# Altium footprint library discret.PcbLib: 21 footprints (part 1 of 2)
Each footprint in its own frame and in the unit in brackets; x right, y up, seen from the top. Pads: shape width x height; smd on the part's side, far side on the other; paste and mask are expansions set on the pad; w line width, h text height; cw(c..) or ccw(c..) is an arc to the next point about the centre after c.
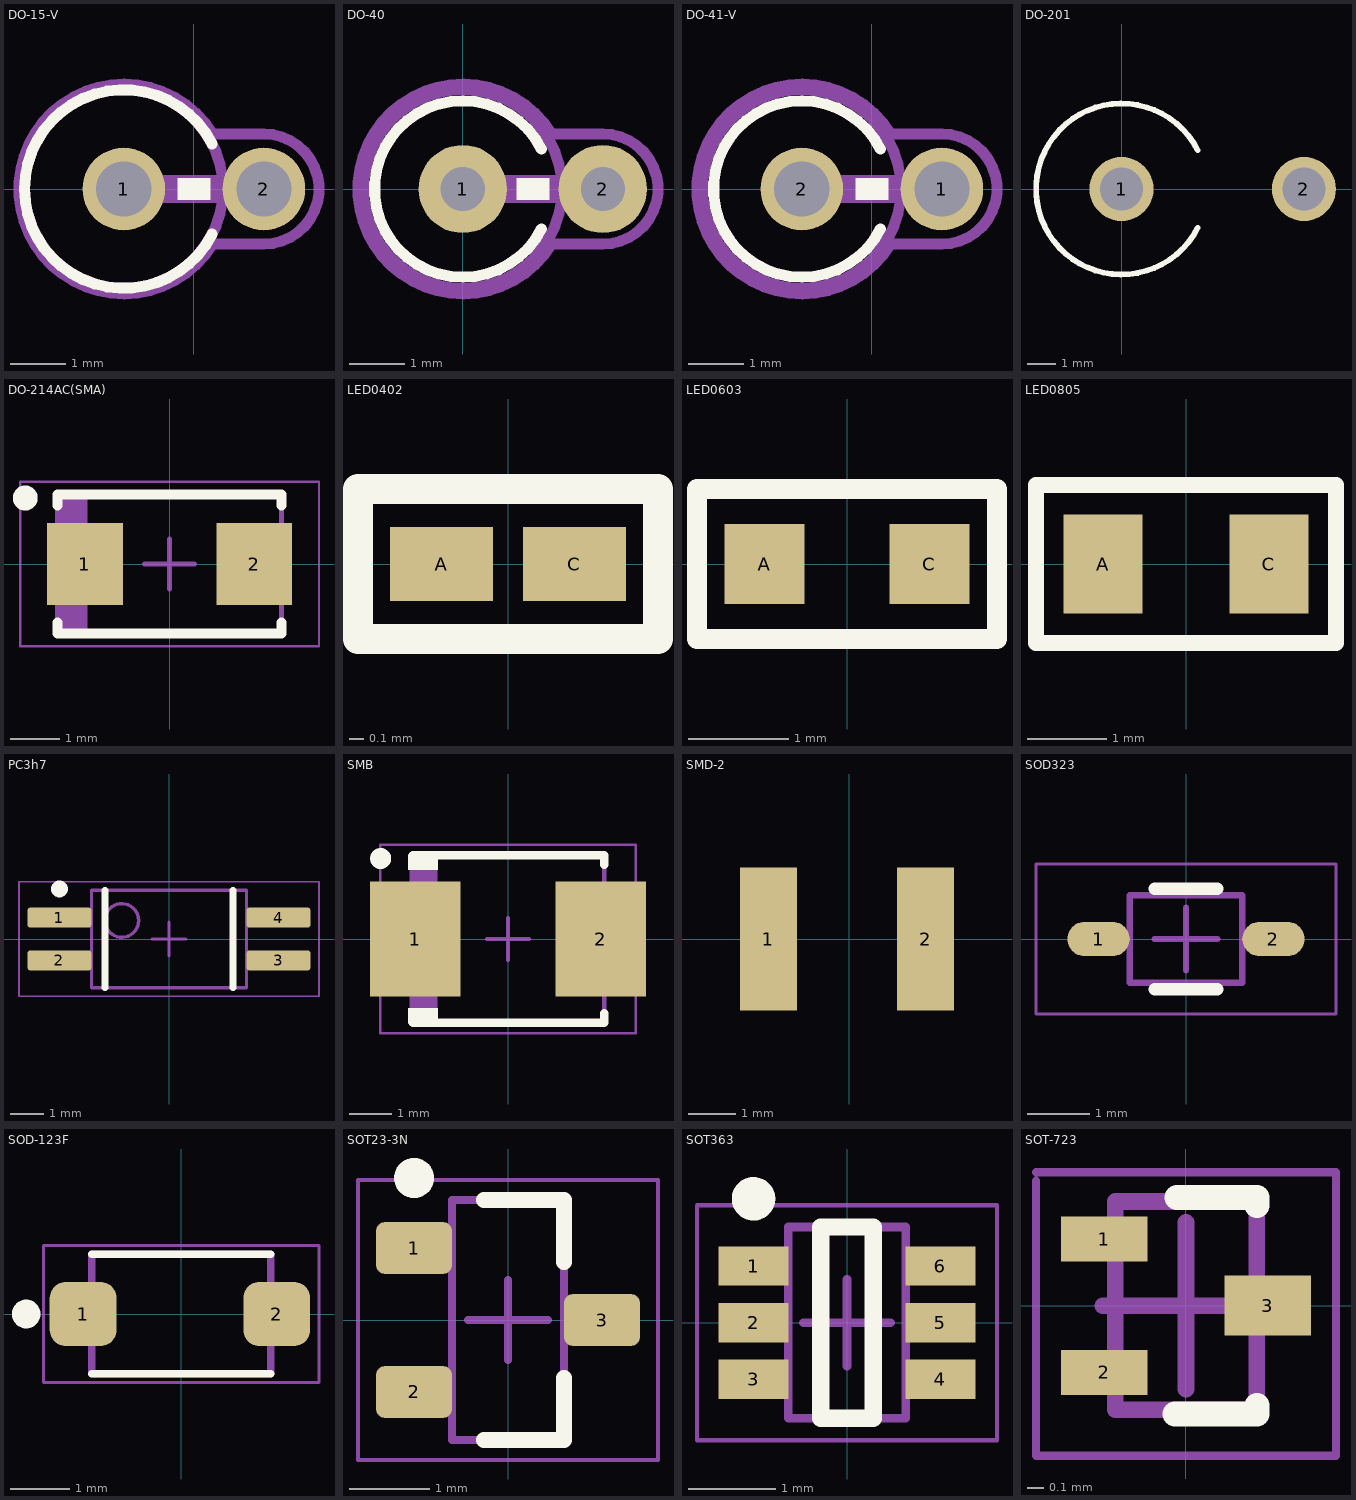
[diagram p0: the footprints below, top view; thin cyan lines are the x and y axes]

## DO-15-V [mm] "vertical"
height 9
pads (2):
  round 1.5 hole 1: 1(-1.27,0) 2(1.27,0)
Top Overlay:
  rectangle: -0.3,-0.2 0.3,0.2
  lines w0.2: 0.334,-0.817 cw(c-1.27,0) 0.334,0.817
Mechanical 13:
  circle w0.2: c-1.27,0 r1.8
  lines w0.5: -1.27,0 1.27,0
Mechanical 15:
  lines w0.2: 0.342,-1.005 cw(c-1.27,0) 0.342,1.005 0.342,1 1.27,1 cw(c1.27,0) 1.27,-1 0.342,-1 0.342,-1.005
3D body "DO-15-Vertical.STEP": height 11.05, standoff -4, extent -3.05,-1.78 1.7,1.78

## DO-40 [mm] "vertical"
height 9
pads (2):
  round 1.6 hole 0.8: 1(0,0) 2(2.54,0)
Top Overlay:
  rectangle: 0.97,-0.2 1.57,0.2
  lines w0.2: 1.426,-0.726 cw(c0,0) 1.426,0.726
Mechanical 13:
  circle w0.2: c0,0 r1.8
  lines w0.5: 0,0 2.79,0
Mechanical 15:
  lines w0.2: 1.612,-1.005 cw(c0,0) 1.612,1.005 1.612,1 2.54,1 cw(c2.54,0) 2.54,-1 1.612,-1 1.612,-1.005
3D body "Diode.stp": height 7.55, standoff -2, extent -1.248,-1.24 2.79,1.25

## DO-41-V [mm] "vertical"
height 9
pads (2):
  round 1.5 hole 1: 1(1.27,0) 2(-1.27,0)
Top Overlay:
  rectangle: -0.3,-0.2 0.3,0.2
  lines w0.2: 0.156,-0.726 cw(c-1.27,0) 0.156,0.726
Mechanical 13:
  circle w0.2: c-1.27,0 r1.8
  lines w0.5: -1.27,0 1.27,0
Mechanical 15:
  lines w0.2: 0.342,-1.005 cw(c-1.27,0) 0.342,1.005 0.342,1 1.27,1 cw(c1.27,0) 1.27,-1 0.342,-1 0.342,-1.005
3D body "DO-41_Vertical.STEP": height 10.14, standoff -4, extent -2.635,-1.365 1.7,1.365

## DO-201 [mm]
pads (2):
  round 2.25 hole 1.5: 1(0,0) 2(6.4,0)
Top Overlay:
  lines w0.2: 2.673,-1.362 cw(c0,0) 2.673,1.362
3D body "User Library-User Library-DO-201AV-Vertical_2001.STEP": height 15.69, standoff -3, extent -2.8,-2.8 7.09,2.8

## DO-214AC(SMA) [mm] "Molded Diode, 2-Leads, Body 4,25x2,67mm, IPC Medium Density"
height 2.29
pads (2):
  rect 1.52x1.65 smd: 1(-1.7,0) 2(1.7,0)
Top Overlay:
  circle w0.25: c-2.9,1.325 r0.125
  lines w0.2: -2.25,-1.175 -2.25,-1.4 2.25,-1.4 2.25,-1.175 ; -2.25,1.175 -2.25,1.4 2.25,1.4 2.25,1.175
Top Assembly:
  rectangle: -2.25,-1.395 -1.645,1.395
  lines w0.1: -2.25,-1.395 2.25,-1.395 2.25,1.395 -2.25,1.395 -2.25,-1.395
Top Courtyard:
  lines w0.05: -3,-1.65 3,-1.65 3,1.65 -3,1.65 -3,-1.65
  lines w0.1: -0.5,0 0.5,0 ; 0,-0.5 0,0.5
3D body "DIOM4227X23N.step": height 2.29, standoff 0, extent -2.47,-1.395 2.47,1.395

## LED0402 [mm] "1mm 0,5mm"
pads (2):
  rect 0.7x0.5 smd: A(-0.45,0) C(0.45,0)
Top Overlay:
  lines w0.2: -1.016,-0.508 -1.016,0.508 1.016,0.508 1.016,-0.508 -1.016,-0.508
Top Courtyard:
  lines w0.1: -1.016,-0.508 -1.016,0.508 1.016,0.508 1.016,-0.508 -1.016,-0.508
3D body: height 0.25, standoff 0, extent -0.55,-0.4 0.625,0.4

## LED0603 [mm] "1.6mm 0.8mm"
pads (2):
  rect 0.8x0.8 smd: A(-0.825,0) C(0.825,0)
Top Overlay:
  lines w0.2: -1.5,-0.75 -1.5,0.75 1.5,0.75 1.5,-0.75 -1.5,-0.75
Top Courtyard:
  lines w0.1: -1.5,-0.75 1.5,-0.75 1.5,0.75 -1.5,0.75 -1.5,-0.75
3D body: height 0.25, standoff 0, extent -1,-0.525 1,0.525

## LED0805 [mm] "2.0mm 1.25mm"
pads (2):
  rect 1x1.25 smd: A(-1.05,0) C(1.05,0)
Top Overlay:
  lines w0.2: -1.9,-1 -1.9,1 1.9,1 1.9,-1 -1.9,-1
3D body "User Library-LED-0805-B.step": height 1.1, standoff 0, extent -1,-0.625 1,0.625

## PC3h7 [mm] "SOIC, 4-Leads, Body 2,60x4,40mm, Pitch 1,27mm, Thermal Pad 3,10x2,40mm, IPC Medium Density"
height 2.2
pads (4):
  rrect30% 1.9x0.6 smd: 1(-3.25,0.635) 2(-3.25,-0.635) 3(3.25,-0.635) 4(3.25,0.635)
Top Overlay:
  circle w0.25: c-3.25,1.485 r0.125
  lines w0.2: -1.9,-1.45 -1.9,1.45 ; 1.9,-1.45 1.9,1.45
Top Assembly:
  circle w0.1: c-1.4,0.55 r0.5
  lines w0.1: -2.3,-1.45 -2.3,1.45 2.3,1.45 2.3,-1.45 -2.3,-1.45
Top Courtyard:
  lines w0.05: -4.45,-1.7 -4.45,1.7 4.45,1.7 4.45,-1.7 -4.45,-1.7
  lines w0.1: -0.5,0 0.5,0 ; 0,-0.5 0,0.5
3D body "PC3h7.step": height 2.2, standoff 0, extent -3.625,-1.45 3.625,1.45

## SMB [mm] "1SMB59xxBT3G Series, SZ1SMB59xxT3G Series, SMB  CASE 403A?03  ISSUE J"
height 2.47
pads (2):
  rect 2.159x2.743 smd: 1(-2.21,0) 2(2.21,0)
Top Overlay:
  circle w0.25: c-3.04,1.921 r0.125
  rectangle: -2.388,-2 -1.676,-1.651
  rectangle: -2.388,1.651 -1.676,2
  lines w0.2: -2.286,-1.981 -2.267,-2 2.3,-2 2.3,-1.772 ; -2.286,1.981 -2.267,2 2.3,2 2.3,1.772
Mechanical 13:
  rectangle: -2.3,-1.975 -1.681,1.975
  lines w0.1: -2.3,-1.975 -2.3,1.975 2.3,1.975 2.3,-1.975 -2.3,-1.975
Mechanical 15:
  lines w0.05: -3.05,-2.25 -3.05,2.25 3.05,2.25 3.05,-2.25 -3.05,-2.25
  lines w0.1: -0.5,0 0.5,0 ; 0,-0.5 0,0.5
3D body "SMB.step": height 2.47, standoff 0, extent -2.52,-1.975 2.52,1.975

## SMD-2 [mm]
pads (2):
  rect 1.2x3 smd: 1(-1.7,0) 2(1.6,0)
3D body "User Library-CG7_GDT_arrestor.step": height 2.8, standoff 0, extent -1.837,-1.391 1.663,1.409

## SOD323 [mm]
height 1.1
pads (2):
  oval 1x0.55 smd: 1(-1.4,0) 2(1.4,0)
Top Overlay:
  lines w0.2: -0.5,-0.8 0.5,-0.8 ; -0.5,0.8 0.5,0.8
Mechanical 13:
  lines w0.1: -0.9,-0.7 -0.9,0.7 0.9,0.7 0.9,-0.7 -0.9,-0.7
Mechanical 15:
  lines w0.05: -2.4,-1.2 -2.4,1.2 2.4,1.2 2.4,-1.2 -2.4,-1.2
  lines w0.1: -0.5,0 0.5,0 ; 0,-0.5 0,0.5
3D body "SOD323.step": height 1.1, standoff 0.01, extent -1.243,-0.7 1.243,0.7

## SOD-123F [mm]
pads (2):
  rrect50% 1.12x1.08 smd: 1(-1.645,0) 2(1.6,0)
Top Overlay:
  circle w0.24: c-2.6,0 r0.12
  lines w0.127: -1.5,-1 1.5,-1 ; -1.5,1 1.5,1
Mechanical 13:
  lines w0.127: -1.5,-1 -1.5,1 1.5,1 1.5,-1 -1.5,-1
Mechanical 15:
  lines w0.05: -2.31,-1.15 -2.31,1.15 2.31,1.15 2.31,-1.15 -2.31,-1.15
3D body "User Library-SOD123F.STEP": height 1.2, standoff -0.01, extent -1.9,-0.85 1.85,0.85

## SOT23-3N [mm] "SOT23, 3-Leads, Body 2,90x2,40mm, Pitch 0,90mm, IPC Medium Density"
height 1.1
pads (3):
  rrect35% 0.95x0.65 smd: 1(-1.175,0.9) 2(-1.175,-0.9) 3(1.175,0)
Top Overlay:
  circle w0.25: c-1.175,1.775 r0.125
  lines w0.2: -0.3,-1.5 0.7,-1.5 0.7,-0.725 ; -0.3,1.5 0.7,1.5 0.7,0.725
Mechanical 13:
  lines w0.1: -0.7,-1.5 0.7,-1.5 0.7,1.5 -0.7,1.5 -0.7,-1.5
Mechanical 15:
  lines w0.05: -1.875,-1.75 1.875,-1.75 1.875,1.75 -1.875,1.75 -1.875,-1.75
  lines w0.1: -0.5,0 0.5,0 ; 0,-0.5 0,0.5
3D body "SOT90P240X110-3N.step": height 1.1, standoff 0, extent -1.25,-1.5 1.25,1.5

## SOT363 [mm] "SOT363, 6-Leads, Body 2,00x2,10mm, Pitch 0,65mm, IPC Medium Density"
height 1.1
pads (6):
  rect 0.8x0.45 smd: 1(-1.075,0.65) 2(-1.075,0) 3(-1.075,-0.65) 4(1.075,-0.65) 5(1.075,0) 6(1.075,0.65)
Top Overlay:
  circle w0.25: c-1.075,1.425 r0.125
  lines w0.2: -0.3,-1.1 0.3,-1.1 0.3,1.1 -0.3,1.1 -0.3,-1.1
Top Assembly:
  lines w0.1: -0.675,-1.1 -0.675,1.1 0.675,1.1 0.675,-1.1 -0.675,-1.1
Top Courtyard:
  lines w0.05: -1.725,-1.35 -1.725,1.35 1.725,1.35 1.725,-1.35 -1.725,-1.35
  lines w0.1: -0.5,0 0.5,0 ; 0,-0.5 0,0.5
3D body "SOT363.step": height 1.1, standoff 0, extent -1.15,-1.1 1.15,1.1

## SOT-723 [mm] "SOT23, 3-Leads, Body 1,20x1,20mm, Pitch 0,40mm, IPC Medium Density"
height 0.5
pads (3):
  rect 0.52x0.27 smd: 1(-0.49,0.4) 2(-0.49,-0.4)
  rect 0.52x0.36 smd: 3(0.49,0)
Top Overlay:
  lines w0.15: -0.065,-0.65 0.425,-0.65 0.425,-0.6 ; -0.055,0.65 0.425,0.65 0.425,0.6
Mechanical 13:
  lines w0.1: -0.425,-0.625 0.425,-0.625 0.425,0.625 -0.425,0.625 -0.425,-0.625
Mechanical 15:
  lines w0.05: -0.9,0.75 -0.9,-0.9 0.363,-0.9 0.9,-0.9 0.9,-0.1 0.9,0.8 -0.9,0.8
  lines w0.1: -0.5,0 0.5,0 ; 0,-0.5 0,0.5
3D body "SOT40P120X50-3N.step": height 0.5, standoff 0, extent -0.558,-0.625 0.558,0.625